# EAGLE library part UNAV (library OfficineRobotiche)
https://github.com/officinerobotiche/uNAVPCB
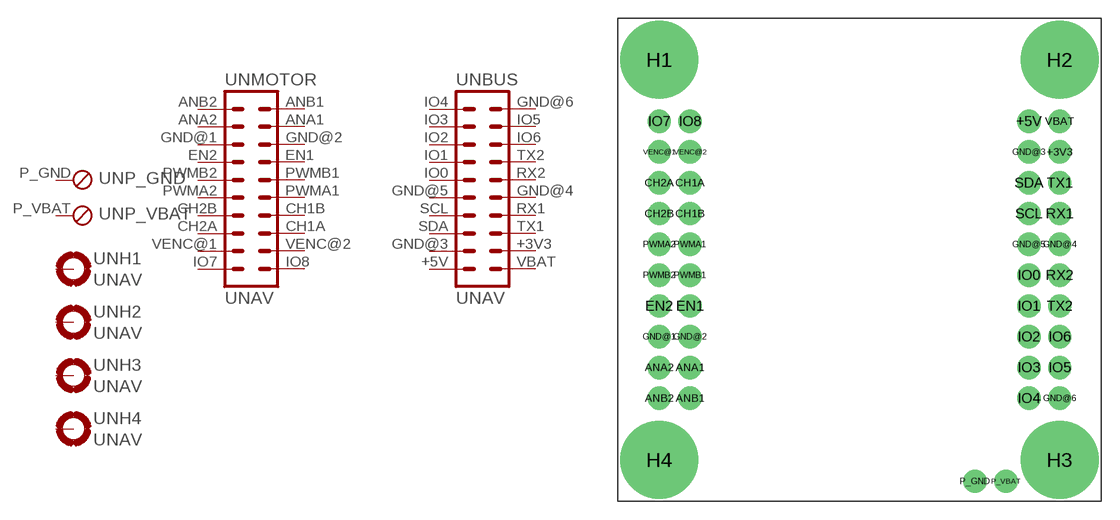
[diagram p6: symbol with the pads of UNAV_BOARD; footprint UNAV_BOARD]

Designator prefix UN; gates MOTOR=MA10-2 BUS=MA10-2 P_GND=PERSONALE_SKB P_VBAT=PERSONALE_SKB H1=MOUNT-PAD H2=MOUNT-PAD H3=MOUNT-PAD H4=MOUNT-PAD

## UNAV  [UNAV_BOARD]
+3V3  BUS:3  pas
+5V  BUS:2  pas
ANA1  MOTOR:17  pas
ANA2  MOTOR:18  pas
ANB1  MOTOR:19  pas
ANB2  MOTOR:20  pas
CH1A  MOTOR:5  pas
CH1B  MOTOR:7  pas
CH2A  MOTOR:6  pas
CH2B  MOTOR:8  pas
EN1  MOTOR:13  pas
EN2  MOTOR:14  pas
GND@1  MOTOR:16  pas
GND@2  MOTOR:15  pas
GND@3  BUS:4  pas
GND@4  BUS:9  pas
GND@5  BUS:10  pas
GND@6  BUS:19  pas
H1  H1:MOUNT  pas
H2  H2:MOUNT  pas
H3  H3:MOUNT  pas
H4  H4:MOUNT  pas
IO0  BUS:12  pas
IO1  BUS:14  pas
IO2  BUS:16  pas
IO3  BUS:18  pas
IO4  BUS:20  pas
IO5  BUS:17  pas
IO6  BUS:15  pas
IO7  MOTOR:2  pas
IO8  MOTOR:1  pas
P_GND  P_GND:1  pas
P_VBAT  P_VBAT:1  pas
PWMA1  MOTOR:9  pas
PWMA2  MOTOR:10  pas
PWMB1  MOTOR:11  pas
PWMB2  MOTOR:12  pas
RX1  BUS:7  pas
RX2  BUS:11  pas
SCL  BUS:8  pas
SDA  BUS:6  pas
TX1  BUS:5  pas
TX2  BUS:13  pas
VBAT  BUS:1  pas
VENC@1  MOTOR:4  pas
VENC@2  MOTOR:3  pas

## Footprint UNAV_BOARD (pad centres in mm)
drill 1.016 pad 1.93: +3V3 33.02,25.4; +5V 30.48,27.94; ANA1 2.54,7.62; ANA2 0,7.62; ANB1 2.54,5.08; ANB2 0,5.08; CH1A 2.54,22.86; CH1B 2.54,20.32; CH2A 0,22.86; CH2B 0,20.32; EN1 2.54,12.7; EN2 0,12.7; GND@1 0,10.16; GND@2 2.54,10.16; GND@3 30.48,25.4; GND@4 33.02,17.78; GND@5 30.48,17.78; GND@6 33.02,5.08; IO0 30.48,15.24; IO1 30.48,12.7; IO2 30.48,10.16; IO3 30.48,7.62; IO4 30.48,5.08; IO5 33.02,7.62; IO6 33.02,10.16; IO7 0,27.94; IO8 2.54,27.94; P_GND 26.035,-1.778; P_VBAT 28.575,-1.778; PWMA1 2.54,17.78; PWMA2 0,17.78; PWMB1 2.54,15.24; PWMB2 0,15.24; RX1 33.02,20.32; RX2 33.02,15.24; SCL 30.48,20.32; SDA 30.48,22.86; TX1 33.02,22.86; TX2 33.02,12.7; VBAT 33.02,27.94; VENC@1 0,25.4; VENC@2 2.54,25.4
drill 2.8 pad 6.452: H1 0,33.02; H2 33.02,33.02; H3 33.02,0; H4 0,0